# EAGLE library part K1-1203UA-01 (library Eric Navarrete Custom Parts Feb 2019)
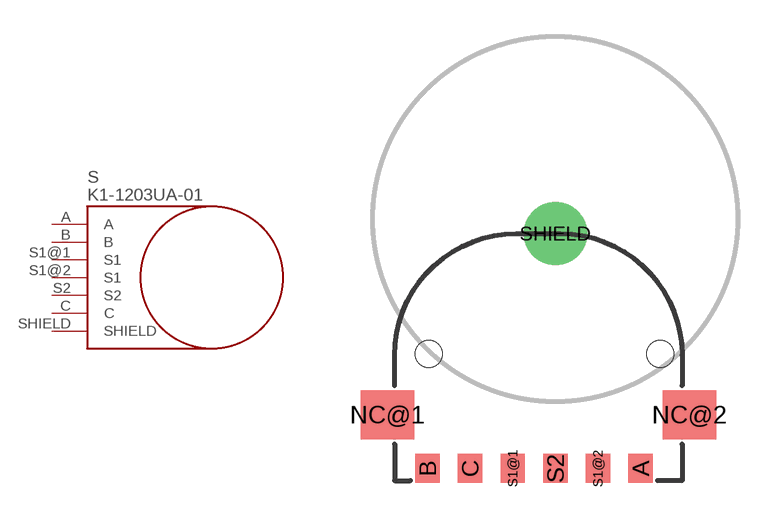
[diagram p9: symbol with the pads of K1-1203UA-01; footprint K1-1203UA-01]

Designator prefix S

## K1-1203UA-01  [K1-1203UA-01]
A  A
B  B
C  C
S1@1  S1
S1@2  S1
S2  S2
SHIELD  SHIELD

## Footprint K1-1203UA-01 (pad centres in mm)
smd 1 x 1.2: A 3.5,0; B -5.25,0; C -3.5,0; S1@1 -1.75,0; S1@2 1.75,0; S2 0,0
smd 2.2 x 2: NC@1 -6.9,2.2; NC@2 5.5,2.2
drill 1.4 pad 2.6: SHIELD 0,9.65
hole 1.1 at -5.2,4.7
hole 1.1 at 4.3,4.7